# Altium footprint library 2440PCBV3.PcbLib: 58 footprints (part 1 of 4)
Each footprint in its own frame and in the unit in brackets; x right, y up, seen from the top. Pads: shape width x height; smd on the part's side, far side on the other; paste and mask are expansions set on the pad; w line width, h text height; cw(c..) or ccw(c..) is an arc to the next point about the centre after c.
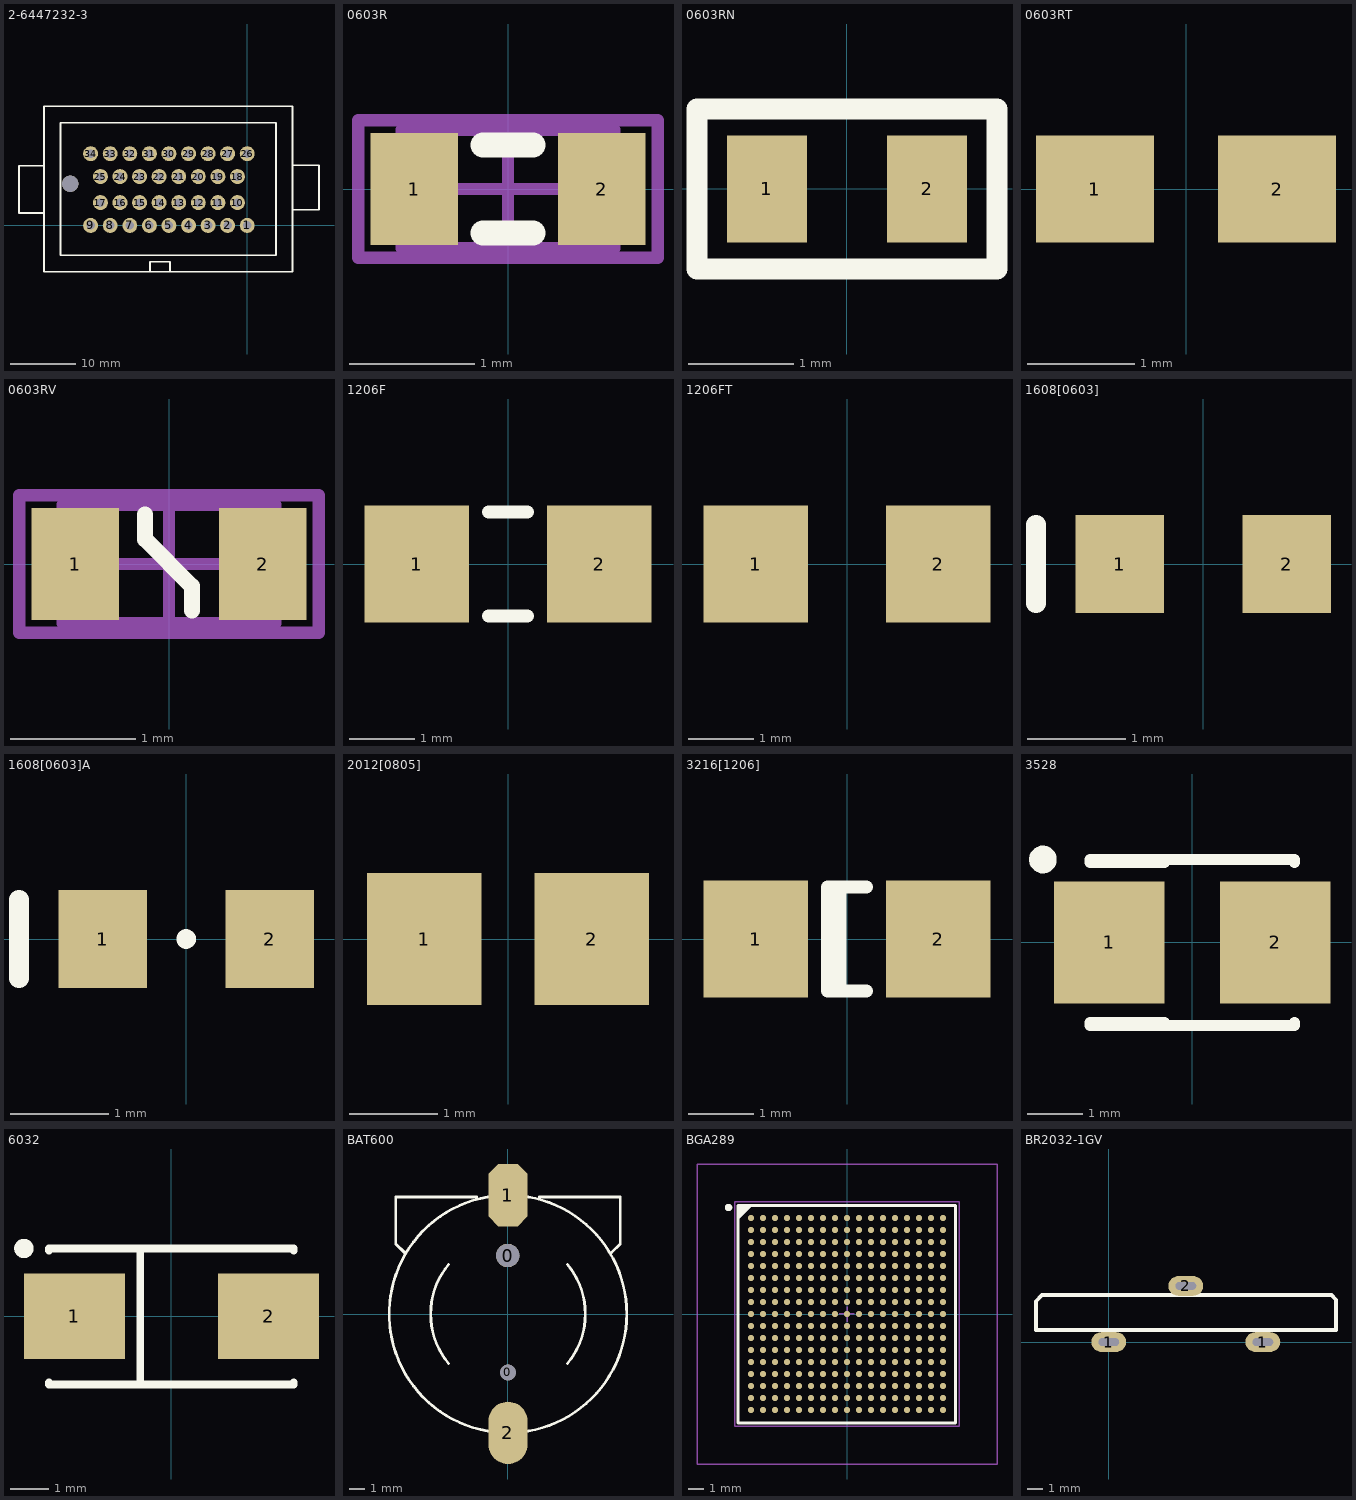
[diagram p0: the footprints below, top view; thin cyan lines are the x and y axes]

## 2-6447232-3 [mm]
pads (35):
  round 2.3 hole 1.3: 1(0,0) 2(-3,0) 3(-6,0) 4(-9,0) 5(-12,0) 6(-15,0) 7(-18,0) 8(-21,0) 9(-24,0) 10(-1.5,3.5) 11(-4.5,3.5) 12(-7.5,3.5) 13(-10.5,3.5) 14(-13.5,3.5) 15(-16.5,3.5) 16(-19.5,3.5) 17(-22.5,3.5) 18(-1.5,7.5) 19(-4.5,7.5) 20(-7.5,7.5) 21(-10.5,7.5) 22(-13.5,7.5) 23(-16.5,7.5) 24(-19.5,7.5) 25(-22.5,7.5) 26(0,11) 27(-3,11) 28(-6,11) 29(-9,11) 30(-12,11) 31(-15,11) 32(-18,11) 33(-21,11) 34(-24,11)
  round 2.5 hole 2.5 unplated: ""(-27.135,6.393)
Top Overlay:
  lines w0.254: -31.15,1.905 -34.96,1.905 -34.98,1.925 -34.98,9.131 -31.13,9.131 ; -14.895,-7.107 -14.895,-5.583 -11.847,-5.583 -11.847,-7.107 ; 6.924,9.22 10.975,9.22 ; 6.949,2.413 11,2.413 11,9.195 ; -31.151,-7.107 -24.039,-7.107 6.949,-7.107 6.949,0.005 6.949,18.293 -31.151,18.293 -31.151,0.005 -31.151,-7.107 ; -28.611,-4.567 -28.611,15.753 4.409,15.753 4.409,-4.567 -28.611,-4.567
3D body: height 5, standoff 0, extent 4.389,2.427 10.991,9.251
3D body: height 5, standoff 0, extent -34.972,1.793 -28.656,9.097
3D body: height 12, standoff 0, extent -28.629,-4.559 4.406,15.759
3D body: height 15, standoff 12, extent -31.198,-7.136 7.042,18.357
3D body: height 25, standoff 15, extent -28.629,-4.559 4.406,15.766

## 0603R [mm]
pads (2):
  rect 0.7x0.9 smd: 1(-0.75,0) 2(0.75,0)
Top Overlay:
  lines w0.2: -0.2,-0.35 0.2,-0.35 ; -0.2,0.35 0.2,0.35
Mechanical 13:
  lines w0.1: -0.85,-0.475 0.85,-0.475 0.85,0.475 -0.85,0.475 -0.85,-0.475
Mechanical 15:
  lines w0.1: -0.475,0 0.475,0 ; 0,-0.475 0,0.475 ; -1.2,-0.55 1.2,-0.55 1.2,0.55 -1.2,0.55 -1.2,-0.55
3D body: height 0.45, standoff 0, extent -0.775,-0.425 0.775,0.425

## 0603RN [mil]
pads (2):
  rect 30x40 smd: 1(-30,0) 2(30,0)
Top Overlay:
  lines w7.87: 56.14,-30.04 56.14,30 -56.14,30 -56.14,-30 56.14,-30
3D body: height 20.79, standoff 0, extent -51.64,-19.45 50.72,19.92

## 0603RT [mm]
pads (2):
  rect 1.1x1 smd: 1(-0.85,0) 2(0.85,0)
3D body: height 0.53, standoff 0, extent -1.304,-0.501 1.296,0.499

## 0603RV [mm]
pads (2):
  rect 0.7x0.9 smd: 1(-0.75,0) 2(0.75,0)
Top Overlay:
  lines w0.127: -0.191,0.396 -0.191,0.197 0.183,-0.177 0.183,-0.371
Mechanical 13:
  lines w0.1: -0.85,-0.475 0.85,-0.475 0.85,0.475 -0.85,0.475 -0.85,-0.475
Mechanical 15:
  lines w0.1: -0.475,0 0.475,0 ; 0,-0.475 0,0.475 ; -1.2,-0.55 1.2,-0.55 1.2,0.55 -1.2,0.55 -1.2,-0.55
3D body: height 0.45, standoff 0, extent -0.775,-0.425 0.775,0.425

## 1206F [mm]
height 0.71
pads (2):
  rect 1.6x1.8 smd: 1(-1.4,0) 2(1.4,0)
Top Overlay:
  lines w0.2: -0.3,-0.8 0.3,-0.8 ; -0.3,0.8 0.3,0.8
3D body: height 0.63, standoff 0, extent -2.117,-0.903 2.083,0.897

## 1206FT [mm]
height 0.71
pads (2):
  rect 1.6x1.8 smd: 1(-1.4,0) 2(1.4,0)
3D body: height 0.63, standoff 0, extent -2.117,-0.903 2.083,0.897

## 1608[0603] [mm]
height 0.85
pads (2):
  rect 0.9x1 smd: 1(-0.85,0) 2(0.85,0)
Top Overlay:
  lines w0.2: -1.7,-0.4 -1.7,0.4
3D body: height 0.89, standoff -0.01, extent -1.297,-0.499 1.303,0.5

## 1608[0603]A [mm]
height 0.85
pads (2):
  rect 0.9x1 smd: 1(-0.85,0) 2(0.85,0)
Top Overlay:
  circle w0.1: c0,0 r0.05
  lines w0.2: -1.7,-0.4 -1.7,0.4
3D body: height 0.89, standoff -0.01, extent -1.297,-0.499 1.303,0.5

## 2012[0805] [mm]
height 0.65
pads (2):
  rect 1.3x1.5 smd: 1(-0.95,0) 2(0.95,0)
3D body: height 0.53, standoff 0, extent -1.508,-0.701 1.492,0.699

## 3216[1206] [mm]
height 0.71
pads (2):
  rect 1.6x1.8 smd: 1(-1.4,0) 2(1.4,0)
Top Overlay:
  lines w0.2: -0.11,-0.8 -0.11,0.8 ; 0.3,-0.8 -0.3,-0.8 -0.3,0.8 0.3,0.8
3D body: height 0.95, standoff -0.01, extent -2.103,-0.9 2.097,0.9

## 3528 [mm] "Capacitor, SM"
height 2.5
pads (2):
  rect 2x2.2 smd: 1(-1.5,0) 2(1.5,0)
Top Overlay:
  circle w0.25: c-2.7,1.5 r0.125
  lines w0.2: -1.85,-1.5 1.85,-1.5 1.85,-1.45 ; -1.85,-1.45 -0.5,-1.45 ; -1.85,1.45 -0.5,1.45 ; -1.85,1.5 1.85,1.5 1.85,1.45
3D body: height 2.74, standoff 0.64, extent -1.787,-1.312 1.904,1.508

## 6032 [mm]
height 3.4
pads (2):
  rect 2.6x2.2 smd: 1(-2.5,0) 2(2.5,0)
Top Overlay:
  circle w0.25: c-3.8,1.75 r0.125
  lines w0.2: -3.15,-1.7 -3.15,-1.75 3.15,-1.75 3.15,-1.7 ; -3.15,1.7 -3.15,1.75 3.15,1.75 3.15,1.7 ; -0.8,-1.75 -0.8,1.75
3D body: height 2.22, standoff -0.47, extent -3.13,-1.556 3.055,1.649

## BAT600 [mm]
pads (4):
  round 1.5 hole 1.5 unplated: 0(-0.012,3.75)
  round 1 hole 1 unplated: 0(0.012,-3.75)
  oct 2.5x4 smd: 1(0.012,7.62)
  oval 2.5x4 smd: 2(0.012,-7.62)
Top Overlay:
  lines w0.178: -6.612,3.925 -7.187,4.5 -7.187,7.5 -1.987,7.5 ; -3.8,-3.172 cw(c0.013,0) -3.797,3.175 ; -0.821,-7.574 cw(c0.013,0) -0.821,7.574 ; 0.846,-7.574 ccw(c0.013,0) 7.633,0 ccw(c0.013,0) 0.846,7.574 ; 2.012,7.5 7.212,7.5 7.212,4.5 6.612,3.9 ; 3.825,-3.172 ccw(c0.013,0) 3.827,3.169
3D body: height 3.5, standoff 0, extent -7.62,-7.574 7.62,7.5

## BGA289 [mm] "BGA, 289-Leads, Body 14."
height 1.22
pads (289):
  round 0.4 smd: A1(-6.4,6.4) A2(-5.6,6.4) A3(-4.8,6.4) A4(-4,6.4) A5(-3.2,6.4) A6(-2.4,6.4) A7(-1.6,6.4) A8(-0.8,6.4) A9(0,6.4) A10(0.8,6.4) A11(1.6,6.4) A12(2.4,6.4) A13(3.2,6.4) A14(4,6.4) A15(4.8,6.4) A16(5.6,6.4) A17(6.4,6.4) B1(-6.4,5.6) B2(-5.6,5.6) B3(-4.8,5.6) B4(-4,5.6) B5(-3.2,5.6) B6(-2.4,5.6) B7(-1.6,5.6) B8(-0.8,5.6) B9(0,5.6) B10(0.8,5.6) B11(1.6,5.6) B12(2.4,5.6) B13(3.2,5.6) B14(4,5.6) B15(4.8,5.6) B16(5.6,5.6) B17(6.4,5.6) C1(-6.4,4.8) C2(-5.6,4.8) C3(-4.8,4.8) C4(-4,4.8) C5(-3.2,4.8) C6(-2.4,4.8) C7(-1.6,4.8) C8(-0.8,4.8) C9(0,4.8) C10(0.8,4.8) C11(1.6,4.8) C12(2.4,4.8) C13(3.2,4.8) C14(4,4.8) C15(4.8,4.8) C16(5.6,4.8) C17(6.4,4.8) D1(-6.4,4) D2(-5.6,4) D3(-4.8,4) D4(-4,4) D5(-3.2,4) D6(-2.4,4) D7(-1.6,4) D8(-0.8,4) D9(0,4) D10(0.8,4) D11(1.6,4) D12(2.4,4) D13(3.2,4) D14(4,4) D15(4.8,4) D16(5.6,4) D17(6.4,4) E1(-6.4,3.2) E2(-5.6,3.2) E3(-4.8,3.2) E4(-4,3.2) E5(-3.2,3.2) E6(-2.4,3.2) E7(-1.6,3.2) E8(-0.8,3.2) E9(0,3.2) E10(0.8,3.2) E11(1.6,3.2) E12(2.4,3.2) E13(3.2,3.2) E14(4,3.2) E15(4.8,3.2) E16(5.6,3.2) E17(6.4,3.2) F1(-6.4,2.4) F2(-5.6,2.4) F3(-4.8,2.4) F4(-4,2.4) F5(-3.2,2.4) F6(-2.4,2.4) F7(-1.6,2.4) F8(-0.8,2.4) F9(0,2.4) F10(0.8,2.4) F11(1.6,2.4) F12(2.4,2.4) F13(3.2,2.4) F14(4,2.4) F15(4.8,2.4) F16(5.6,2.4) F17(6.4,2.4) G1(-6.4,1.6) G2(-5.6,1.6) G3(-4.8,1.6) G4(-4,1.6) G5(-3.2,1.6) G6(-2.4,1.6) G7(-1.6,1.6) G8(-0.8,1.6) G9(0,1.6) G10(0.8,1.6) G11(1.6,1.6) G12(2.4,1.6) G13(3.2,1.6) G14(4,1.6) G15(4.8,1.6) G16(5.6,1.6) G17(6.4,1.6) H1(-6.4,0.8) H2(-5.6,0.8) H3(-4.8,0.8) H4(-4,0.8) H5(-3.2,0.8) H6(-2.4,0.8) H7(-1.6,0.8) H8(-0.8,0.8) H9(0,0.8) H10(0.8,0.8) H11(1.6,0.8) H12(2.4,0.8) H13(3.2,0.8) H14(4,0.8) H15(4.8,0.8) H16(5.6,0.8) H17(6.4,0.8) J1(-6.4,0) J2(-5.6,0) J3(-4.8,0) J4(-4,0) J5(-3.2,0) J6(-2.4,0) J7(-1.6,0) J8(-0.8,0) J9(0,0) J10(0.8,0) J11(1.6,0) J12(2.4,0) J13(3.2,0) J14(4,0) J15(4.8,0) J16(5.6,0) J17(6.4,0) K1(-6.4,-0.8) K2(-5.6,-0.8) K3(-4.8,-0.8) K4(-4,-0.8) K5(-3.2,-0.8) K6(-2.4,-0.8) K7(-1.6,-0.8) K8(-0.8,-0.8) K9(0,-0.8) K10(0.8,-0.8) K11(1.6,-0.8) K12(2.4,-0.8) K13(3.2,-0.8) K14(4,-0.8) K15(4.8,-0.8) K16(5.6,-0.8) K17(6.4,-0.8) L1(-6.4,-1.6) L2(-5.6,-1.6) L3(-4.8,-1.6) L4(-4,-1.6) L5(-3.2,-1.6) L6(-2.4,-1.6) L7(-1.6,-1.6) L8(-0.8,-1.6) L9(0,-1.6) L10(0.8,-1.6) L11(1.6,-1.6) L12(2.4,-1.6) L13(3.2,-1.6) L14(4,-1.6) L15(4.8,-1.6) L16(5.6,-1.6) L17(6.4,-1.6) M1(-6.4,-2.4) M2(-5.6,-2.4) M3(-4.8,-2.4) M4(-4,-2.4) M5(-3.2,-2.4) M6(-2.4,-2.4) M7(-1.6,-2.4) M8(-0.8,-2.4) M9(0,-2.4) M10(0.8,-2.4) M11(1.6,-2.4) M12(2.4,-2.4) M13(3.2,-2.4) M14(4,-2.4) M15(4.8,-2.4) M16(5.6,-2.4) M17(6.4,-2.4) N1(-6.4,-3.2) N2(-5.6,-3.2) N3(-4.8,-3.2) N4(-4,-3.2) N5(-3.2,-3.2) N6(-2.4,-3.2) N7(-1.6,-3.2) N8(-0.8,-3.2) N9(0,-3.2) N10(0.8,-3.2) N11(1.6,-3.2) N12(2.4,-3.2) N13(3.2,-3.2) N14(4,-3.2) N15(4.8,-3.2) N16(5.6,-3.2) N17(6.4,-3.2) P1(-6.4,-4) P2(-5.6,-4) P3(-4.8,-4) P4(-4,-4) P5(-3.2,-4) P6(-2.4,-4) P7(-1.6,-4) P8(-0.8,-4) P9(0,-4) P10(0.8,-4) P11(1.6,-4) P12(2.4,-4) P13(3.2,-4) P14(4,-4) P15(4.8,-4) P16(5.6,-4) P17(6.4,-4) R1(-6.4,-4.8) R2(-5.6,-4.8) R3(-4.8,-4.8) R4(-4,-4.8) R5(-3.2,-4.8) R6(-2.4,-4.8) R7(-1.6,-4.8) R8(-0.8,-4.8) R9(0,-4.8) R10(0.8,-4.8) R11(1.6,-4.8) R12(2.4,-4.8) R13(3.2,-4.8) R14(4,-4.8) R15(4.8,-4.8) R16(5.6,-4.8) R17(6.4,-4.8) T1(-6.4,-5.6) T2(-5.6,-5.6) T3(-4.8,-5.6) T4(-4,-5.6) T5(-3.2,-5.6) T6(-2.4,-5.6) T7(-1.6,-5.6) T8(-0.8,-5.6) T9(0,-5.6) T10(0.8,-5.6) T11(1.6,-5.6) T12(2.4,-5.6) T13(3.2,-5.6) T14(4,-5.6) T15(4.8,-5.6) T16(5.6,-5.6) T17(6.4,-5.6) U1(-6.4,-6.4) U2(-5.6,-6.4) U3(-4.8,-6.4) U4(-4,-6.4) U5(-3.2,-6.4) U6(-2.4,-6.4) U7(-1.6,-6.4) U8(-0.8,-6.4) U9(0,-6.4) U10(0.8,-6.4) U11(1.6,-6.4) U12(2.4,-6.4) U13(3.2,-6.4) U14(4,-6.4) U15(4.8,-6.4) U16(5.6,-6.4) U17(6.4,-6.4)
Top Overlay:
  circle w0.25: c-7.9,7.1 r0.125
  region: -6.399,7.25 -7.25,6.399 -7.25,7.25
  lines w0.2: -7.25,6.399 -6.399,7.25 ; -7.25,-7.25 -7.25,7.25 7.25,7.25 7.25,-7.25 -7.25,-7.25
Mechanical 1:
  lines w0.1: -10,-10 -10,10 10,10 10,-10 -10,-10
Mechanical 13:
  lines w0.1: -7.25,-7.25 -7.25,7.25 7.25,7.25 7.25,-7.25 -7.25,-7.25
Mechanical 15:
  lines w0.1: -0.5,0 0.5,0 ; 0,-0.5 0,0.5 ; -7.5,-7.5 -7.5,7.5 7.5,7.5 7.5,-7.5 -7.5,-7.5
3D body: height 1.22, standoff 0.35, extent -7.25,-7.25 7.25,7.25

## BR2032-1GV [mm] "CR2032-1GV"
pads (3):
  oval 2.3x1.3 hole 0.5 slot 1.35 at 0 deg: 1(0,0) 1(10.16,0) 2(5.08,3.7)
Top Overlay:
  lines w0.254: -4.8,0.8 -4.8,2.693 -4.393,3.1 14.68,3.1 14.986,2.794 14.986,0.8 -4.8,0.8
3D body: height 21.51, standoff -3.5, extent -4.928,-0.101 15.088,3.707